# Altium schematic symbol library KSZ8041TL.SchLib: 1 symbol
Pins are listed as number, name and electrical type; pins without a type are passive.

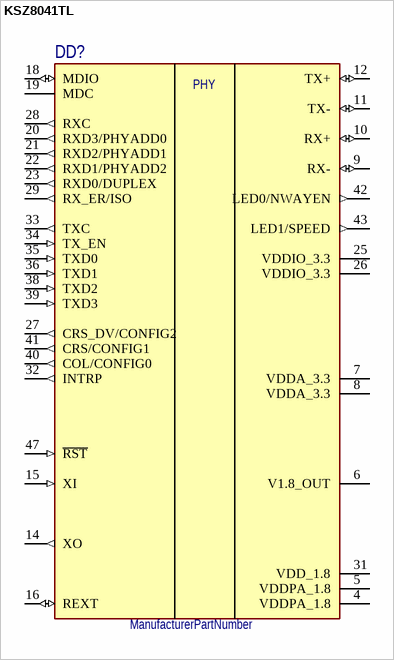
[diagram p0: symbol KSZ8041TL]

## KSZ8041TL
designator DD?
ManufacturerPartNumber: ManufacturerPartNumber
pins: 1 GND (power) hidden to GND, 2 GND (power) hidden to GND, 3 GND (power) hidden to GND, 4 VDDPA_1.8 (power), 5 VDDPA_1.8 (power), 6 V1.8_OUT (power) "GND", 7 VDDA_3.3 (power), 8 VDDA_3.3 (power), 9 RX- (io), 10 RX+ (io), 11 TX- (io), 12 TX+ (io), 13 GND (power) hidden to GND, 14 XO (out), 15 XI (in), 16 REXT (io), 17 GND (power) hidden to GND, 18 MDIO (io), 19 MDC, 20 RXD3/PHYADD0 (out), 21 RXD2/PHYADD1 (out), 22 RXD1/PHYADD2 (out), 23 RXD0/DUPLEX (out), 24 GND (power) hidden to GND, 25 VDDIO_3.3 (power) "GND", 26 VDDIO_3.3 (power) "GND", 27 CRS_DV/CONFIG2 (out), 28 RXC (out), 29 RX_ER/ISO (out), 30 GND (power) hidden to GND, 31 VDD_1.8 (power), 32 INTRP (out), 33 TXC (out), 34 TX_EN (in), 35 TXD0 (in), 36 TXD1 (in), 37 GND (power) hidden to GND, 38 TXD2 (in), 39 TXD3 (in), 40 COL/CONFIG0 (out), 41 CRS/CONFIG1 (out), 42 LED0/NWAYEN (out), 43 LED1/SPEED (out), 47 ~{RST} (in)
text: PHY